# EAGLE library part TPA3255 (library ICs)
315-W Stereo, 600-W Mono PurePath™ Ultra-HD Analog-Input
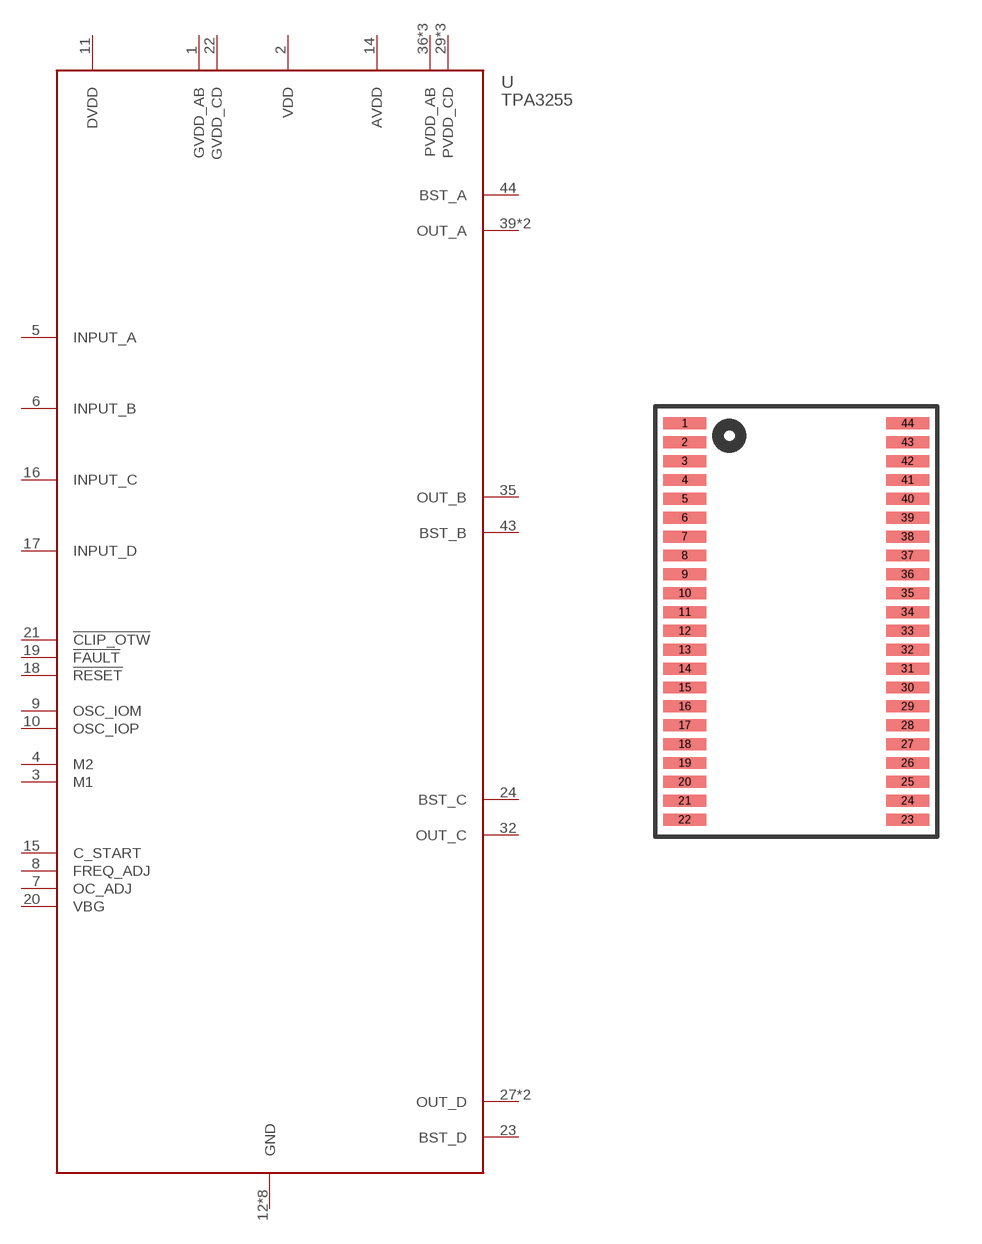
[diagram p172: symbol with the pads of HTSSOP44; footprint HTSSOP44]

Designator prefix U

## TPA3255 (DIGIKEY: 296-45124-5-ND; HEIGHT: 1.2; PRICE_PER: 8.67; VALUE: TPA3255)  [HTSSOP44]
1  GVDD_AB
2  VDD
3  M1
4  M2
5  INPUT_A
6  INPUT_B
7  OC_ADJ
8  FREQ_ADJ
9  OSC_IOM
10  OSC_IOP
11  DVDD
12  GND
13  GND
14  AVDD
15  C_START
16  INPUT_C
17  INPUT_D
18  !RESET
19  !FAULT
20  VBG
21  !CLIP_OTW
22  GVDD_CD
23  BST_D
24  BST_C
25  GND
26  GND
27  OUT_D
28  OUT_D
29  PVDD_CD
30  PVDD_CD
31  PVDD_CD
32  OUT_C
33  GND
34  GND
35  OUT_B
36  PVDD_AB
37  PVDD_AB
38  PVDD_AB
39  OUT_A
40  OUT_A
41  GND
42  GND
43  BST_B
44  BST_A

## Footprint HTSSOP44 (pad centres in mm)
smd 1.45 x 0.4: 1 -3.75,6.668; 2 -3.75,6.032; 3 -3.75,5.397; 4 -3.75,4.763; 5 -3.75,4.128; 6 -3.75,3.493; 7 -3.75,2.857; 8 -3.75,2.223; 9 -3.75,1.587; 10 -3.75,0.953; 11 -3.75,0.318; 12 -3.75,-0.318; 13 -3.75,-0.953; 14 -3.75,-1.587; 15 -3.75,-2.223; 16 -3.75,-2.857; 17 -3.75,-3.493; 18 -3.75,-4.128; 19 -3.75,-4.763; 20 -3.75,-5.397; 21 -3.75,-6.032; 22 -3.75,-6.668; 23 3.75,-6.668; 24 3.75,-6.032; 25 3.75,-5.397; 26 3.75,-4.763; 27 3.75,-4.128; 28 3.75,-3.493; 29 3.75,-2.857; 30 3.75,-2.223; 31 3.75,-1.587; 32 3.75,-0.953; 33 3.75,-0.318; 34 3.75,0.318; 35 3.75,0.953; 36 3.75,1.587; 37 3.75,2.223; 38 3.75,2.857; 39 3.75,3.493; 40 3.75,4.128; 41 3.75,4.763; 42 3.75,5.397; 43 3.75,6.032; 44 3.75,6.668